# EAGLE library part SN74HCT139DR (library SamacSys_Parts)
Dual 2-Line To 4-Line Decoders/Demultiplexers Source: Datasheet <http://www.ti.com/lit/gpn/SN74HCT139>
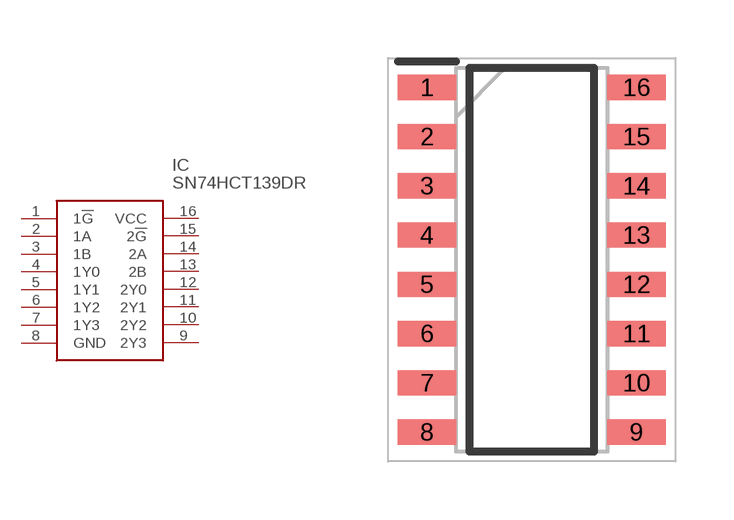
[diagram p90: symbol with the pads of SOIC127P600X175-16N; footprint SOIC127P600X175-16N]

Designator prefix IC

## SN74HCT139DR (DESCRIPTION: Dual 2-Line To 4-Line Decoders/Demultiplexers; HEIGHT: 1.75mm; MANUFACTURER_NAME: Texas Instruments; MANUFACTURER_PART_NUMBER: SN74HCT139DR; MOUSER_PART_NUMBER: 595-SN74HCT139DR; MOUSER_PRICE-STOCK: https://www.mouser.co.uk/ProductDetail/Texas-Instruments/SN74HCT139DR?qs=SL3LIuy2dWx3etna%2FyPDyw%3D%3D)  [SOIC127P600X175-16N]
1  1!G
2  1A
3  1B
4  1Y0
5  1Y1
6  1Y2
7  1Y3
8  GND
9  2Y3
10  2Y2
11  2Y1
12  2Y0
13  2B
14  2A
15  2!G
16  VCC

## Footprint SOIC127P600X175-16N (pad centres in mm)
NSOIC16-1
smd 1.5 x 0.65: 1 -2.7,4.445; 2 -2.7,3.175; 3 -2.7,1.905; 4 -2.7,0.635; 5 -2.7,-0.635; 6 -2.7,-1.905; 7 -2.7,-3.175; 8 -2.7,-4.445; 9 2.7,-4.445; 10 2.7,-3.175; 11 2.7,-1.905; 12 2.7,-0.635; 13 2.7,0.635; 14 2.7,1.905; 15 2.7,3.175; 16 2.7,4.445